# Altium schematic symbol library other.schlib: 18 symbols
Pins are listed as number, name and electrical type; pins without a type are passive.

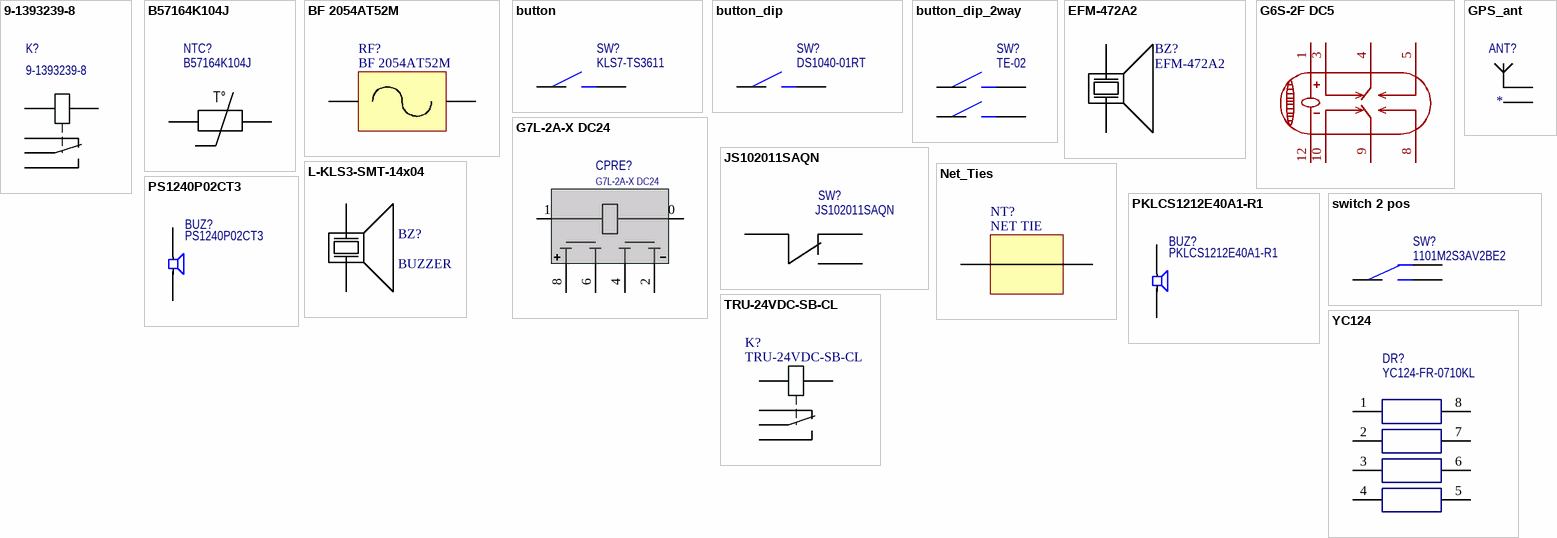
[diagram p0: symbols 9-1393239-8 to YC124]

## 9-1393239-8
designator K?
relay
footprint 9-1393239-8
pins: 11, 12, 14, A1, A2

## B57164K104J
designator NTC?
NTC TDK
footprint B57164K104J
pins: 1, 2
text: T°

## BF 2054AT52M
designator RF?
EMP Filter
footprint BF 2054AT52M (EMP Filter)
pins: 1, 2

## button
designator SW?, comment KLS7-TS3611
footprint KLS7-TS3611
pins: 1, 2

## button_dip
designator SW?, comment DS1040-01RT
footprint DS1040-01RT (DIP Switch)
pins: 1, 2

## button_dip_2way
designator SW?, comment TE-02
Part: TE-02; JLCPCB Part: C559147
footprint TE-02 Yuandi (DIP Switch)
pins: 1, 2, 3, 4

## EFM-472A2
designator BZ?
Buzzer; Alternative Part: -; Part: EFM-472A2
footprint EFM-472A2
pins: 1, 2

## G6S-2F DC5
designator K?  (value not drawn)
Manufacturer: OMRON(欧姆龙); Symbol: G6S-2F-DC5V; Add into BOM: yes; Device: G6S-2F DC5; LCSC Part Name: G6S-2F-DC5V; Supplier Part: C16707; Manufacturer Part: G6S-2F DC5; Supplier Footprint: SMD,7.3x14.8mm; JLCPCB Part Class: Extended Part; Datasheet: https://atta.szlcsc.com/upload/public/pdf/source/20180910/C231396_388937E7606AF1B60CB333B596E64AED.pdf; Supplier: LCSC; Convert to PCB: yes; Coil Voltage: -; Contact Form: -; Pin Number: -; Contact Rating: -; Maximum Switching Voltage: -; Contact Material: -; Coil Resistance: -; Maximum Switching Current: -; Operate Time: -; Release Time: -; Coil Type: -; Contact Resistance: -; Operating Temperature: -
footprint RELAY-SMD_G6S-2F-TR
pins: 1, 3, 4, 5, 8, 9, 10, 12

## G7L-2A-X DC24
designator CPRE?
footprint G7L-2A-X DC24
pins: 0, 1, 2, 4, 6, 8

## GPS_ant
designator ANT?
Amt02 GPS antenna
footprint AMT02
pins: 1 Ant, 2 GND

## JS102011SAQN
designator SW?
slide switches
footprint JS102011SAQN (SMT Slide Switches)
pins: 1, 2, 3

## L-KLS3-SMT-14x04
designator BZ?, comment BUZZER
footprint L-KLS3-SMT-14x04
pins: 1, 2

## Net_Ties
designator NT?, comment NET TIE
footprint Net_Ties_1mm
footprint Net_Ties_2mm
pins: 1, 2

## PKLCS1212E40A1-R1
designator BUZ?
Piezoelectric Sounders SMD Type
footprint PKLCS1212E40A1-R1 (Piezoelectric Sounders SMD Type)
pins: 1, 2

## PS1240P02CT3
designator BUZ?
Piezoelectric Sounders
pins: 1, 2

## switch 2 pos
designator SW?, comment 1101M2S3AV2BE2
footprint 1101M2S3AV2BE2
pins: 1, 2, 3

## TRU-24VDC-SB-CL
designator K?
24v relay no-nc
footprint TRU-24VDC-SB-C (Relay)
pins: 11, 12, 14, A1, A2

## YC124
designator DR?, comment YC124-FR-0710KL
Chip resisitor array
footprint YC124 (Resistor chip array Yageo)
pins: 1, 2, 3, 4, 5, 6, 7, 8